# Altium footprint library myPCB.PcbLib: 96 footprints (part 4 of 6)
Each footprint in its own frame and in the unit in brackets; x right, y up, seen from the top. Pads: shape width x height; smd on the part's side, far side on the other; paste and mask are expansions set on the pad; w line width, h text height; cw(c..) or ccw(c..) is an arc to the next point about the centre after c.
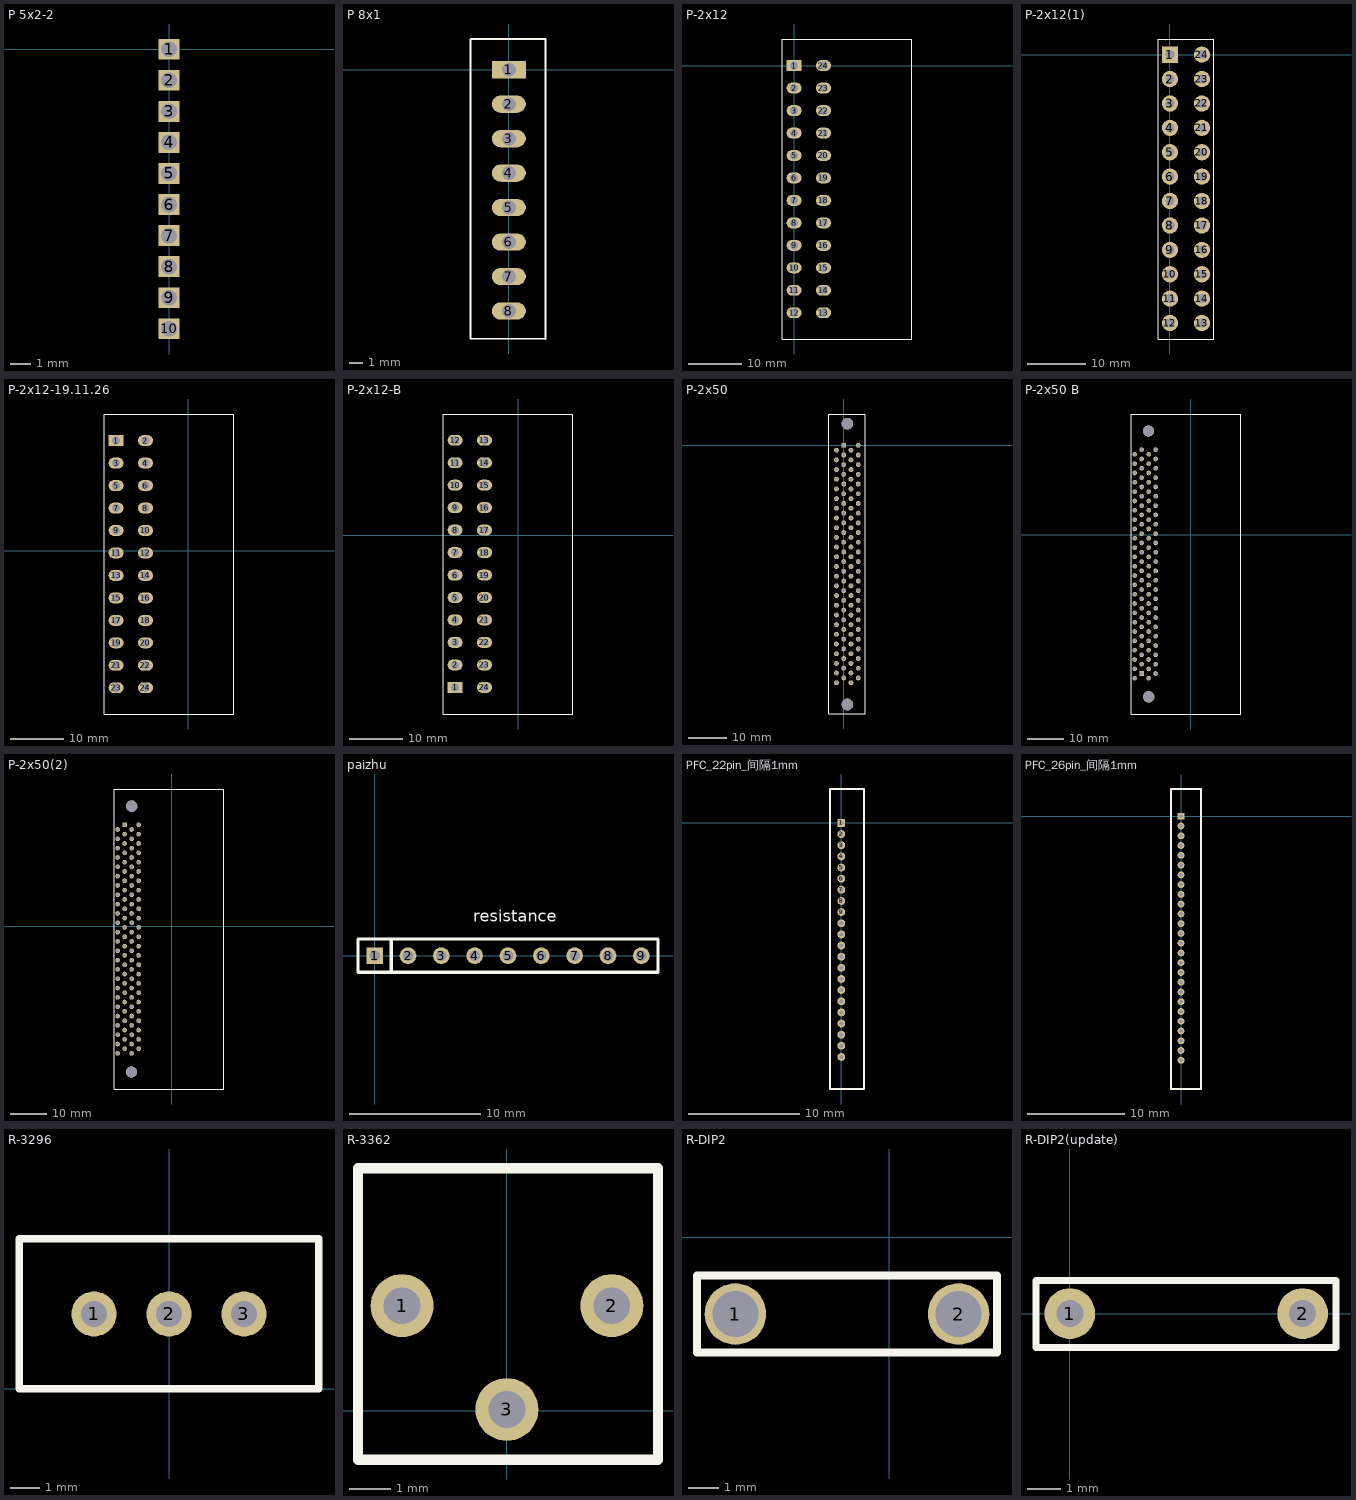
[diagram p3: the footprints below, top view; thin cyan lines are the x and y axes]

## P 5x2-2 [mil] "邮票孔 20210611"
pads (10):
  rect 40x40 hole 30: 1(0,0) 2(0,-60) 3(0,-120) 4(0,-180) 5(0,-240) 6(0,-300) 7(0,-360) 8(0,-420) 9(0,-480) 10(0,-540)

## P 8x1 [mil] "plug_white_8 信号线"
pads (8):
  rect 98.43x50 hole 40: 1(0,0)
  oval 98.43x50 hole 40: 2(0,-100) 3(0,-200) 4(0,-300) 5(0,-400) 6(0,-500) 7(0,-600) 8(0,-700)
Top Overlay:
  lines w5: -111,88 -111,-780 -3,-780 105,-780 ; -110,89 106,89 106,-781

## P-2x12 [mil] "Molex 15246240  间距4.2mm 5.5mm  24pin电源线 right angle"
pads (24):
  rect 110x80 hole 60: 1(0,0)
  oval 110x80 hole 60: 2(0,-165.35) 3(0,-330.71) 4(0,-496.06) 5(0,-661.42) 6(0,-826.77) 7(0,-992.13) 8(0,-1157.48) 9(0,-1322.83) 10(0,-1488.19) 11(0,-1653.54) 12(0,-1818.9) 13(216.54,-1818.9) 14(216.54,-1653.54) 15(216.54,-1488.19) 16(216.54,-1322.83) 17(216.54,-1157.48) 18(216.54,-992.13) 19(216.54,-826.77) 20(216.54,-661.42) 21(216.54,-496.06) 22(216.54,-330.71) 23(216.54,-165.35) 24(216.54,0)
Top Overlay:
  lines w7.8: -86,196 865,196
  lines w7.87: -86,196 -86,-2012 865,-2012 865,196

## P-2x12(1) [mil] "Molex 039281243  间距4.2mm 5.5mm  24pin电源线"
pads (24):
  rect 110x110 hole 60: 1(0,0)
  round 110 hole 60: 2(0,-165.35) 3(0,-330.71) 4(0,-496.06) 5(0,-661.42) 6(0,-826.77) 7(0,-992.13) 8(0,-1157.48) 9(0,-1322.83) 10(0,-1488.19) 11(0,-1653.54) 12(0,-1818.9) 13(216.54,-1818.9) 14(216.54,-1653.54) 15(216.54,-1488.19) 16(216.54,-1322.83) 17(216.54,-1157.48) 18(216.54,-992.13) 19(216.54,-826.77) 20(216.54,-661.42) 21(216.54,-496.06) 22(216.54,-330.71) 23(216.54,-165.35) 24(216.54,0)
Top Overlay:
  lines w7.8: -81,106 298,106
  lines w7.87: -81,106 -81,-1927 298,-1927 298,106

## P-2x12-19.11.26 [mil] "Molex 15246240  间距4.2mm 5.5mm  24pin电源线 right angle"
pads (24):
  rect 110x80 hole 60: 1(-531,810)
  oval 110x80 hole 60: 2(-314.46,810) 3(-531,644.65) 4(-314.46,644.65) 5(-531,479.29) 6(-314.46,479.29) 7(-531,313.94) 8(-314.46,313.94) 9(-531,148.58) 10(-314.46,148.58) 11(-531,-16.77) 12(-314.46,-16.77) 13(-531,-182.13) 14(-314.46,-182.13) 15(-531,-347.48) 16(-314.46,-347.48) 17(-531,-512.83) 18(-314.46,-512.83) 19(-531,-678.19) 20(-314.46,-678.19) 21(-531,-843.54) 22(-314.46,-843.54) 23(-531,-1008.9) 24(-314.46,-1008.9)
Top Overlay:
  lines w7.8: -617,1006 334,1006
  lines w7.87: -617,1006 -617,-1202 334,-1202 334,1006

## P-2x12-B [mil] "Molex 15246240  间距4.2mm 5.5mm  24pin电源线 right angle"
pads (24):
  rect 110x80 hole 60: 1(-464,-1120)
  oval 110x80 hole 60: 2(-464,-954.65) 3(-464,-789.29) 4(-464,-623.94) 5(-464,-458.58) 6(-464,-293.23) 7(-464,-127.87) 8(-464,37.48) 9(-464,202.83) 10(-464,368.19) 11(-464,533.54) 12(-464,698.9) 13(-247.46,698.9) 14(-247.46,533.54) 15(-247.46,368.19) 16(-247.46,202.83) 17(-247.46,37.48) 18(-247.46,-127.87) 19(-247.46,-293.23) 20(-247.46,-458.58) 21(-247.46,-623.94) 22(-247.46,-789.29) 23(-247.46,-954.65) 24(-247.46,-1120)
Top Overlay:
  lines w7.8: -550,-1316 401,-1316
  lines w7.87: -550,-1316 -550,892 401,892 401,-1316

## P-2x50 [mil] "P50E-100P1-S1-XX_型号"
pads (102):
  rect 50x50 hole 35: 1(0,0)
  round 50 hole 35: 2(-75.2,-50) 3(0,-100) 4(-75.2,-150) 5(0,-200) 6(-75.2,-250) 7(0,-300) 8(-75.2,-350) 9(0,-400) 10(-75.2,-450) 11(0,-500) 12(-75.2,-550) 13(0,-600) 14(-75.2,-650) 15(0,-700) 16(-75.2,-750) 17(0,-800) 18(-75.2,-850) 19(0,-900) 20(-75.2,-950) 21(0,-1000) 22(-75.2,-1050) 23(0,-1100) 24(-75.2,-1150) 25(0,-1200) 26(-75.2,-1250) 27(0,-1300) 28(-75.2,-1350) 29(0,-1400) 30(-75.2,-1450) 31(0,-1500) 32(-75.2,-1550) 33(0,-1600) 34(-75.2,-1650) 35(0,-1700) 36(-75.2,-1750) 37(0,-1800) 38(-75.2,-1850) 39(0,-1900) 40(-75.2,-1950) 41(0,-2000) 42(-75.2,-2050) 43(0,-2100) 44(-75.2,-2150) 45(0,-2200) 46(-75.2,-2250) 47(0,-2300) 48(-75.2,-2350) 49(0,-2400) 50(-75.2,-2450) 51(74.8,-2450) 52(150,-2400) 53(74.8,-2350) 54(150,-2300) 55(74.8,-2250) 56(150,-2200) 57(74.8,-2150) 58(150,-2100) 59(74.8,-2050) 60(150,-2000) 61(74.8,-1950) 62(150,-1900) 63(74.8,-1850) 64(150,-1800) 65(74.8,-1750) 66(150,-1700) 67(74.8,-1650) 68(150,-1600) 69(74.8,-1550) 70(150,-1500) 71(74.8,-1450) 72(150,-1400) 73(74.8,-1350) 74(150,-1300) 75(74.8,-1250) 76(150,-1200) 77(74.8,-1150) 78(150,-1100) 79(74.8,-1050) 80(150,-1000) 81(74.8,-950) 82(150,-900) 83(74.8,-850) 84(150,-800) 85(74.8,-750) 86(150,-700) 87(74.8,-650) 88(150,-600) 89(74.8,-550) 90(150,-500) 91(74.8,-450) 92(150,-400) 93(74.8,-350) 94(150,-300) 95(74.8,-250) 96(150,-200) 97(74.8,-150) 98(150,-100) 99(74.8,-50) 100(150,0)
  round 120 hole 120: ""(38,-2674) ""(38,224)
Top Overlay:
  lines w7.87: -152,-2772 220,-2772 220,323 -152,323 -152,-2772

## P-2x50 B [mil] "HIF6-100PA-1.27DS B型"
pads (102):
  rect 50x50 hole 35: 1(-524,-1488)
  round 50 hole 35: 2(-599.2,-1538) 3(-524,-1388) 4(-599.2,-1438) 5(-524,-1288) 6(-599.2,-1338) 7(-524,-1188) 8(-599.2,-1238) 9(-524,-1088) 10(-599.2,-1138) 11(-524,-988) 12(-599.2,-1038) 13(-524,-888) 14(-599.2,-938) 15(-524,-788) 16(-599.2,-838) 17(-524,-688) 18(-599.2,-738) 19(-524,-588) 20(-599.2,-638) 21(-524,-488) 22(-599.2,-538) 23(-524,-388) 24(-599.2,-438) 25(-524,-288) 26(-599.2,-338) 27(-524,-188) 28(-599.2,-238) 29(-524,-88) 30(-599.2,-138) 31(-524,12) 32(-599.2,-38) 33(-524,112) 34(-599.2,62) 35(-524,212) 36(-599.2,162) 37(-524,312) 38(-599.2,262) 39(-524,412) 40(-599.2,362) 41(-524,512) 42(-599.2,462) 43(-524,612) 44(-599.2,562) 45(-524,712) 46(-599.2,662) 47(-524,812) 48(-599.2,762) 49(-524,912) 50(-599.2,862) 51(-449.2,862) 52(-374,912) 53(-449.2,762) 54(-374,812) 55(-449.2,662) 56(-374,712) 57(-449.2,562) 58(-374,612) 59(-449.2,462) 60(-374,512) 61(-449.2,362) 62(-374,412) 63(-449.2,262) 64(-374,312) 65(-449.2,162) 66(-374,212) 67(-449.2,62) 68(-374,112) 69(-449.2,-38) 70(-374,12) 71(-449.2,-138) 72(-374,-88) 73(-449.2,-238) 74(-374,-188) 75(-449.2,-338) 76(-374,-288) 77(-449.2,-438) 78(-374,-388) 79(-449.2,-538) 80(-374,-488) 81(-449.2,-638) 82(-374,-588) 83(-449.2,-738) 84(-374,-688) 85(-449.2,-838) 86(-374,-788) 87(-449.2,-938) 88(-374,-888) 89(-449.2,-1038) 90(-374,-988) 91(-449.2,-1138) 92(-374,-1088) 93(-449.2,-1238) 94(-374,-1188) 95(-449.2,-1338) 96(-374,-1288) 97(-449.2,-1438) 98(-374,-1388) 99(-449.2,-1538) 100(-374,-1488)
  round 120 hole 120: ""(-451,1112) ""(-449,-1738)
Top Overlay:
  lines w7.87: -635,-1922 -635,1294 537,1294 537,-1922 -635,-1922

## P-2x50(2) [mil] "HIF6-100PA-1.27DS"
pads (102):
  rect 50x50 hole 35: 1(-504,1086)
  round 50 hole 35: 2(-579.2,1036) 3(-504,986) 4(-579.2,936) 5(-504,886) 6(-579.2,836) 7(-504,786) 8(-579.2,736) 9(-504,686) 10(-579.2,636) 11(-504,586) 12(-579.2,536) 13(-504,486) 14(-579.2,436) 15(-504,386) 16(-579.2,336) 17(-504,286) 18(-579.2,236) 19(-504,186) 20(-579.2,136) 21(-504,86) 22(-579.2,36) 23(-504,-14) 24(-579.2,-64) 25(-504,-114) 26(-579.2,-164) 27(-504,-214) 28(-579.2,-264) 29(-504,-314) 30(-579.2,-364) 31(-504,-414) 32(-579.2,-464) 33(-504,-514) 34(-579.2,-564) 35(-504,-614) 36(-579.2,-664) 37(-504,-714) 38(-579.2,-764) 39(-504,-814) 40(-579.2,-864) 41(-504,-914) 42(-579.2,-964) 43(-504,-1014) 44(-579.2,-1064) 45(-504,-1114) 46(-579.2,-1164) 47(-504,-1214) 48(-579.2,-1264) 49(-504,-1314) 50(-579.2,-1364) 51(-429.2,-1364) 52(-354,-1314) 53(-429.2,-1264) 54(-354,-1214) 55(-429.2,-1164) 56(-354,-1114) 57(-429.2,-1064) 58(-354,-1014) 59(-429.2,-964) 60(-354,-914) 61(-429.2,-864) 62(-354,-814) 63(-429.2,-764) 64(-354,-714) 65(-429.2,-664) 66(-354,-614) 67(-429.2,-564) 68(-354,-514) 69(-429.2,-464) 70(-354,-414) 71(-429.2,-364) 72(-354,-314) 73(-429.2,-264) 74(-354,-214) 75(-429.2,-164) 76(-354,-114) 77(-429.2,-64) 78(-354,-14) 79(-429.2,36) 80(-354,86) 81(-429.2,136) 82(-354,186) 83(-429.2,236) 84(-354,286) 85(-429.2,336) 86(-354,386) 87(-429.2,436) 88(-354,486) 89(-429.2,536) 90(-354,586) 91(-429.2,636) 92(-354,686) 93(-429.2,736) 94(-354,786) 95(-429.2,836) 96(-354,886) 97(-429.2,936) 98(-354,986) 99(-429.2,1036) 100(-354,1086)
  round 120 hole 120: ""(-431,-1564) ""(-429,1286)
Top Overlay:
  lines w7.87: -615,-1746 557,-1746 557,1470 -615,1470 -615,-1746

## paizhu [mil]
height 354.33
pads (9):
  rect 50x50 hole 32: 1(0,0)
  round 50 hole 32: 2(100,0) 3(200,0) 4(300,0) 5(400,0) 6(500,0) 7(600,0) 8(700,0) 9(800,0)
Top Overlay:
  lines w10: 50,-50 50,50 ; -50,-50 -50,50 850,50 850,-50 -50,-50
  text "resistance" at 295,90 h60

## PFC_22pin_间隔1mm [mm]
pads (22):
  rect 0.7x0.7 hole 0.381: 1(0,0)
  round 0.7 hole 0.381: 2(0,-1) 3(0,-2) 4(0,-3) 5(0,-4) 6(0,-5) 7(0,-6) 8(0,-7) 9(0,-8) 10(0,-9) 11(0,-10) 12(0,-11) 13(0,-12) 14(0,-13) 15(0,-14) 16(0,-15) 17(0,-16) 18(0,-17) 19(0,-18) 20(0,-19) 21(0,-20) 22(0,-21)
Top Overlay:
  lines w0.2: -1.016,-23.876 -1.016,0.254 -1.016,3.048 2.032,3.048 2.032,-23.876 -1.016,-23.876

## PFC_26pin_间隔1mm [mm]
pads (26):
  rect 0.7x0.7 hole 0.381: 1(0,0)
  round 0.7 hole 0.381: 2(0,-1) 3(0,-2) 4(0,-3) 5(0,-4) 6(0,-5) 7(0,-6) 8(0,-7) 9(0,-8) 10(0,-9) 11(0,-10) 12(0,-11) 13(0,-12) 14(0,-13) 15(0,-14) 16(0,-15) 17(0,-16) 18(0,-17) 19(0,-18) 20(0,-19) 21(0,-20) 22(0,-21) 23(0,-22) 24(0,-23) 25(0,-24) 26(0,-25)
Top Overlay:
  lines w0.2: -1.016,-27.94 2.032,-27.94 2.032,2.794 -1.016,2.794 -1.016,0.254 -1.016,-27.94

## R-3296 [mil] "3296滑动电阻"
pads (3):
  round 60 hole 35: 1(-100,100) 2(0,100) 3(100,100)
Top Overlay:
  lines w10: -200,0 200,0 200,200 -200,200 -200,0

## R-3362 [mil] "3362 滑动电阻"
pads (3):
  round 60 hole 35: 1(-100,100) 2(100,100) 3(0,1)
Top Overlay:
  lines w10: -142,-47 -142,231 144,231 144,-47 -142,-47
3D body "R-3362.STEP": height 204.72, standoff -118.11, extent -139.79,-51.8 135.8,223.8

## R-DIP2 [mil] "电阻等方便掰开的直插的元件"
pads (2):
  round 80 hole 60: 1(-200,-100) 2(90,-100)
Top Overlay:
  lines w10: -250,-150 140,-150 140,-50 -200,-50 -250,-50 -250,-150

## R-DIP2(update) [mil]
pads (2):
  round 60 hole 32: 1(0,0) 2(275.59,0)
Top Overlay:
  lines w7.87: 314,39.21 112.19,39.21 -40,39.21 -40,-40 315,-40 315,39.21